# Altium footprint library PCB1.PcbLib: 20 footprints (part 1 of 2)
Each footprint in its own frame and in the unit in brackets; x right, y up, seen from the top. Pads: shape width x height; smd on the part's side, far side on the other; paste and mask are expansions set on the pad; w line width, h text height; cw(c..) or ccw(c..) is an arc to the next point about the centre after c.
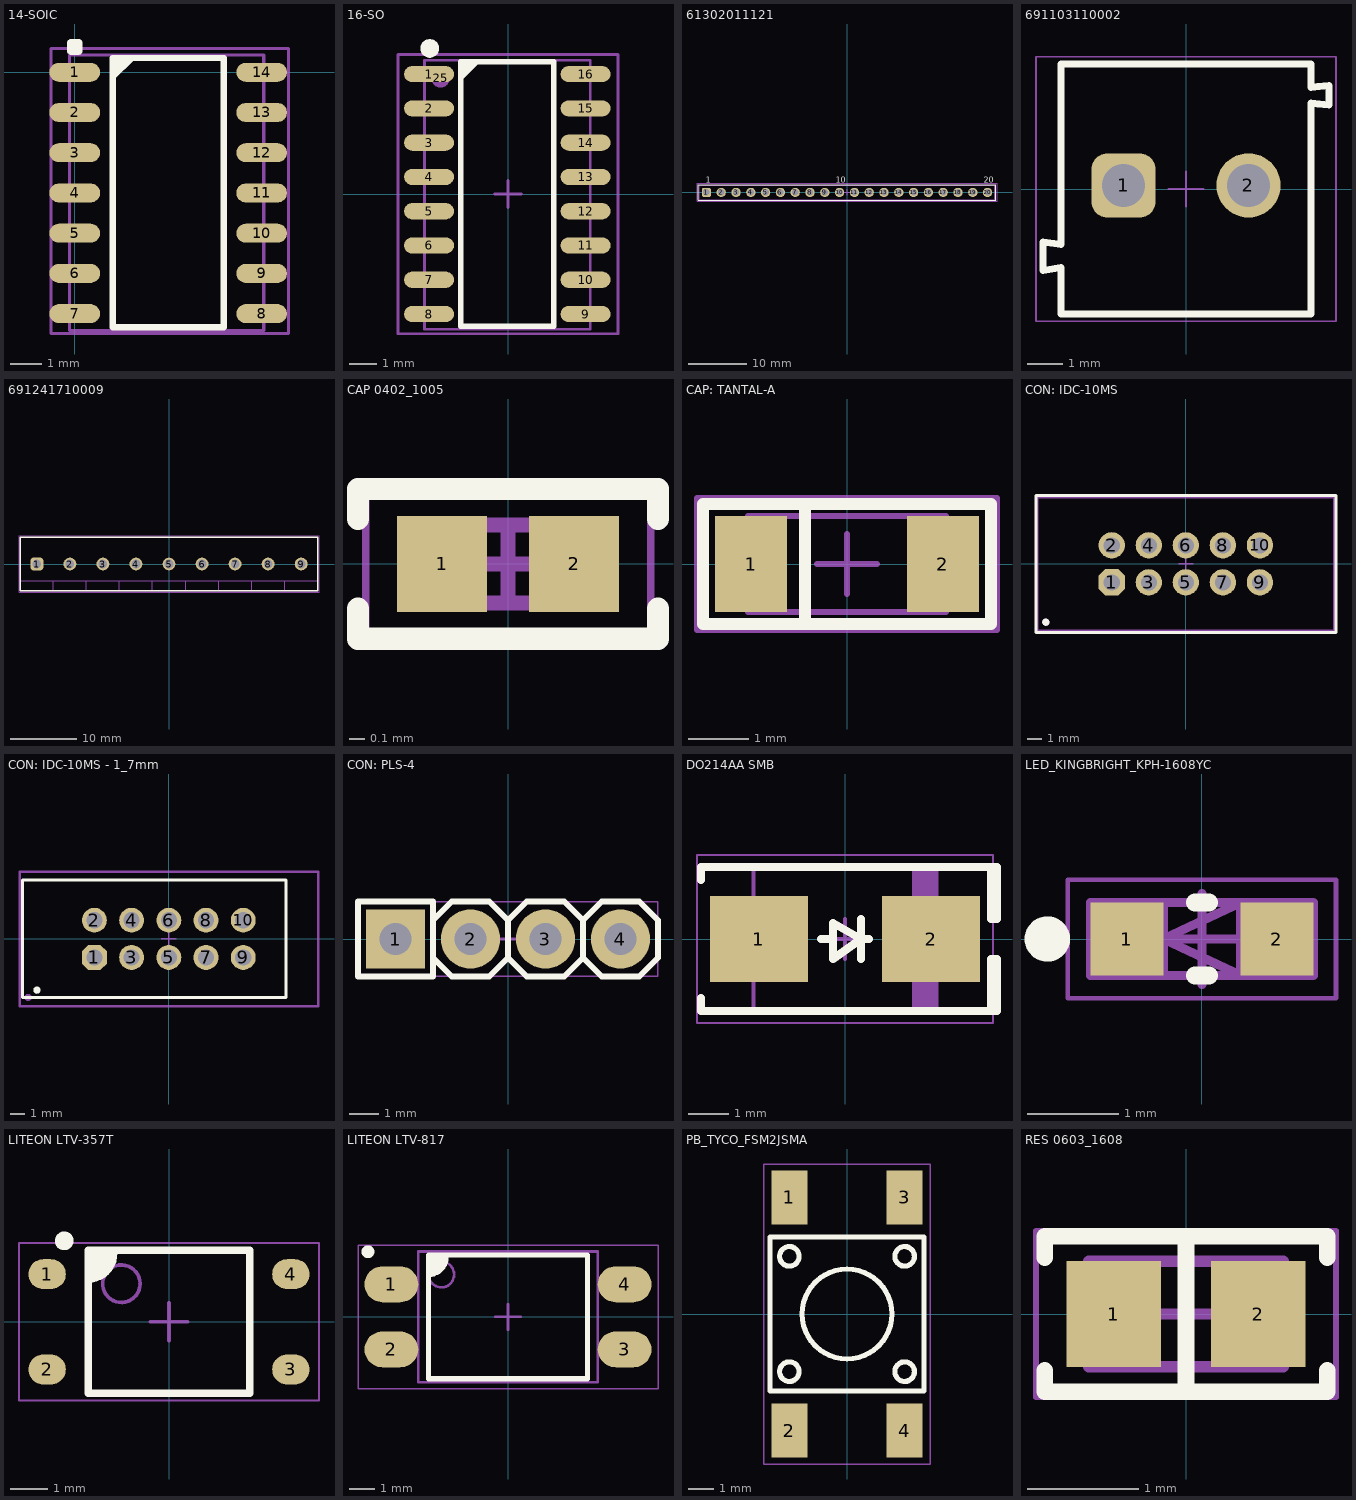
[diagram p0: the footprints below, top view; thin cyan lines are the x and y axes]

## 14-SOIC [mm]
pads (16):
  rrect100% 1.6x0.6 smd: 1(0,0) 2(0,-1.27) 3(0,-2.54) 4(0,-3.81) 5(0,-5.08) 6(0,-6.35) 7(0,-7.62) 8(5.9,-7.62) 9(5.9,-6.35) 10(5.9,-5.08) 11(5.9,-3.81) 12(5.9,-2.54) 13(5.9,-1.27) 14(5.9,0)
  rrect50% 0.5x0.5 on Top Overlay: ""(0,0.8)
  round 0.5 on Mech1: ""(0.5,0)
Top Overlay:
  region: 1.2,0.45 1.2,-0.27 1.92,0.45
  lines w0.2: 1.2,-8.05 4.7,-8.05 4.7,0.45 1.2,0.45 1.2,-8.05
Mechanical 1:
  lines w0.1: -0.168,-8.15 -0.168,0.55 5.969,0.55 5.969,-8.15 -0.168,-8.15
Mechanical 15:
  lines w0.1: -0.75,-8.25 -0.75,0.75 6.75,0.75 6.75,0.5 6.75,-8.25 -0.75,-8.25
3D body "User Library-so14-2.STEP": height 1.78, standoff 0.01, extent -0.118,-8.15 6.019,0.55

## 16-SO [mm]
pads (18):
  oval 1.85x0.6 smd: 1(-2.925,4.448) 2(-2.925,3.178) 3(-2.925,1.908) 4(-2.925,0.638) 5(-2.925,-0.632) 6(-2.925,-1.902) 7(-2.925,-3.172) 8(-2.925,-4.442) 9(2.875,-4.442) 10(2.875,-3.172) 11(2.875,-1.902) 12(2.875,-0.632) 13(2.875,0.638) 14(2.875,1.908) 15(2.875,3.178) 16(2.875,4.448)
  round 0.7 on Mech1: 25(-2.5,4.3)
  round 0.7 on Top Overlay: ""(-2.9,5.4)
Top Overlay:
  region: -1.75,4.9 -1.75,4.18 -1.03,4.9
  lines w0.2: -1.75,-4.9 -1.75,4.9 1.7,4.9 1.7,-4.9 -1.75,-4.9
Mechanical 1:
  lines w0.1: -3.093,-5.01 -3.093,4.96 3.044,4.96 3.044,-5.01 -3.093,-5.01
Mechanical 15:
  lines w0.1: -0.499,0.003 0.501,0.003 ; 0.001,-0.497 0.001,0.503 ; -4.075,-5.175 -4.075,5.175 4.075,5.175 4.075,-5.175 -4.075,-5.175
3D body "User Library-so16-1.STEP": height 1.73, standoff -0.04, extent -3.093,-5.01 3.044,4.96

## 61302011121 [mm]
pads (20):
  rrect50% 1.6x1.6 hole 1.1: 1(-24.13,0)
  round 1.6 hole 1.1: 2(-21.59,0) 3(-19.05,0) 4(-16.51,0) 5(-13.97,0) 6(-11.43,0) 7(-8.89,0) 8(-6.35,0) 9(-3.81,0) 10(-1.27,0) 11(1.27,0) 12(3.81,0) 13(6.35,0) 14(8.89,0) 15(11.43,0) 16(13.97,0) 17(16.51,0) 18(19.05,0) 19(21.59,0) 20(24.13,0)
Top Overlay:
  lines w0.2: -25.55,-1.345 -25.55,1.345 25.55,1.345 25.55,-1.345 -25.55,-1.345
  text "10" at -1.9,1.7 h1.02
  text "1" at -24.25,1.7 h1.02
  text "20" at 23.5,1.7 h1.02
Top 3D Body:
  lines w0.1: -25.4,-1.27 -25.4,1.27 25.4,1.27 25.4,-1.27 -25.4,-1.27
Top Courtyard:
  lines w0.05: -0.5,0 0.5,0 ; 0,-0.5 0,0.5 ; -25.75,-1.545 25.75,-1.545 25.75,1.545 -25.75,1.545 -25.75,-1.545
Top Assembly:
  lines w0.1: -25.4,-1.27 -25.4,1.27 25.4,1.27 25.4,-1.27 -25.4,-1.27
  text ".Designator" at -6.628,2.2 h1.5
3D body "61302011121.stp": height 8.57, standoff -2.97, extent -25.4,-1.27 25.4,1.27

## 691103110002 [mm]
pads (2):
  rrect50% 1.8x1.8 hole 1.2: 1(-1.75,0.1)
  round 1.8 hole 1.2: 2(1.75,0.1)
Top Overlay:
  lines w0.2: -3.5,-1.55 -3.5,3.5 3.5,3.5 3.5,2.85 4,2.899 4,2.35 ; -3.499,-1.55 -4,-1.48 -4,-2.278 -3.5,-2.2 -3.5,-3.5 3.5,-3.5 3.5,2.4 4,2.351
Mechanical 11:
  lines w0.1: -3.5,-1.55 -3.5,3.5 3.5,3.5 3.5,2.85 4,2.899 4,2.35 ; -3.499,-1.55 -4,-1.48 -4,-2.278 -3.5,-2.2 -3.5,-3.5 3.5,-3.5 3.5,2.4 4,2.351
  text ".Designator" at -1.75,-0.75 h1.5
Mechanical 13:
  lines w0.1: -3.5,-1.55 -3.5,3.5 3.5,3.5 3.5,2.85 4,2.899 4,2.35 ; -3.499,-1.55 -4,-1.48 -4,-2.278 -3.5,-2.2 -3.5,-3.5 3.5,-3.5 3.5,2.4 4,2.351
Mechanical 15:
  lines w0.05: -0.5,0 0.5,0 ; 0,-0.5 0,0.5 ; -4.2,-3.7 -4.2,3.7 4.2,3.7 4.2,-3.7 -4.2,-3.7
3D body "691103110002.stp": height 8.45, standoff -3.75, extent -4,-3.5 4,3.5

## 691241710009 [mm]
pads (9):
  rrect50% 1.95x1.95 hole 1.3: 1(-20,0)
  round 1.95 hole 1.3: 2(-15,0) 3(-10,0) 4(-5,0) 5(0,0) 6(5,0) 7(10,0) 8(15,0) 9(20,0)
Top Overlay:
  lines w0.2: -22.5,-4.05 22.5,-4.05 22.5,4.05 -22.5,4.05 -22.5,-4.05
Mechanical 11:
  lines w0.1: -22.5,-2.55 22.5,-2.55 ; -17.5,-4.05 -17.5,-2.55 ; -12.5,-4.05 -12.5,-2.55 ; -7.5,-4.05 -7.5,-2.55 ; -2.5,-4.05 -2.5,-2.55 ; 2.5,-4.05 2.5,-2.55 ; 7.5,-4.05 7.5,-2.55 ; 12.5,-4.05 12.5,-2.55 ; 17.5,-4.05 17.5,-2.55 ; -22.5,-4.05 -22.5,4.05 22.5,4.05 22.5,-4.05 -22.5,-4.05
  text ".Designator" at -1.75,-0.75 h1.5
Mechanical 13:
  lines w0.1: -22.5,-2.55 22.5,-2.55 ; -17.5,-4.05 -17.5,-2.55 ; -12.5,-4.05 -12.5,-2.55 ; -7.5,-4.05 -7.5,-2.55 ; -2.5,-4.05 -2.5,-2.55 ; 2.5,-4.05 2.5,-2.55 ; 7.5,-4.05 7.5,-2.55 ; 12.5,-4.05 12.5,-2.55 ; 17.5,-4.05 17.5,-2.55 ; -22.5,-4.05 22.5,-4.05 22.5,4.05 -22.5,4.05 -22.5,-4.05
Mechanical 15:
  lines w0.05: -0.5,0 0.5,0 ; 0,-0.5 0,0.5 ; -22.7,-4.25 22.7,-4.25 22.7,4.25 -22.7,4.25 -22.7,-4.25
3D body "691241710009.stp": height 10.1, standoff -3.4, extent -22.5,-4.05 22.5,4.05

## CAP 0402_1005 [mm]
pads (2):
  rect 0.6x0.64 smd: 1(-0.44,0) 2(0.44,0)
Top Overlay:
  lines w0.15: -1,-0.3 -1,-0.5 1,-0.5 1,-0.3 ; -1,0.3 -1,0.5 1,0.5 1,0.3
Mechanical 13:
  lines w0.1: -0.515,-0.26 -0.515,0.26 0.515,0.26 0.515,-0.26 -0.515,-0.26
Mechanical 15:
  lines w0.05: -0.95,-0.5 -0.95,0.5 0.95,0.5 0.95,-0.5 -0.95,-0.5
  lines w0.1: -0.26,0 0.26,0 ; 0,-0.26 0,0.26
3D body "0402 cap.STEP": height 0.52, standoff 0, extent -0.5,-0.262 0.5,0.262

## CAP: TANTAL-A [mm]
pads (2):
  rect 1.2x1.6 smd: 1(-1.6,0) 2(1.6,0)
Top Overlay:
  lines w0.2: -0.7,-1 -0.7,1 ; -2.4,-1 -2.4,1 2.4,1 2.4,-1 -2.4,-1
Mechanical 1:
  lines w0.1: -0.7,-0.8 -0.7,0.8 ; -1.651,-0.8 -1.651,0.8 1.651,0.8 1.651,-0.8 -1.651,-0.8
Mechanical 15:
  lines w0.1: -0.5,0 0.5,0 ; 0,-0.5 0,0.5 ; -2.5,-1.1 2.5,-1.1 2.5,1.1 -2.5,1.1 -2.5,-1.1
3D body "User Library-AVX_ACASE.STEP": height 1.71, standoff 0, extent -1.7,-0.84 1.7,0.84

## CON: IDC-10MS [mm]
pads (12):
  oct 1.8x1.8 hole 1.1: 1(-5.08,-1.27)
  round 1.8 hole 1.1: 2(-5.08,1.27) 3(-2.54,-1.27) 4(-2.54,1.27) 5(0,-1.27) 6(0,1.27) 7(2.54,-1.27) 8(2.54,1.27) 9(5.08,-1.27) 10(5.08,1.27)
  round 0.5 on Mech1: ""(-9.6,-4)
  round 0.5 on Top Overlay: ""(-9.6,-4)
Top Overlay:
  lines w0.2: -10.275,-4.7 -10.275,4.675 10.3,4.675 10.3,-4.7 -10.275,-4.7
Mechanical 1:
  lines w0.1: -10.14,-4.572 10.16,-4.572 10.16,4.528 -10.14,4.528 -10.14,-4.572
Mechanical 15:
  lines w0.1: -0.5,0 0.5,0 ; 0,-0.5 0,0.5 ; -10.225,-4.65 -10.225,4.625 10.25,4.625 10.25,-4.65 -10.225,-4.65
3D body "IDC-10MS.STEP": height 9, standoff -3.1, extent -10.14,-4.572 10.16,4.528

## CON: IDC-10MS - 1_7mm [mm]
pads (12):
  oct 1.7x1.7 hole 1.1: 1(-5.08,-1.27)
  round 1.7 hole 1.1: 2(-5.08,1.27) 3(-2.54,-1.27) 4(-2.54,1.27) 5(0,-1.27) 6(0,1.27) 7(2.54,-1.27) 8(2.54,1.27) 9(5.08,-1.27) 10(5.08,1.27)
  round 0.5 on Mech1: ""(-9.6,-4)
  round 0.5 on Top Overlay: ""(-9,-3.5)
Top Overlay:
  lines w0.2: -10,-4 -10,4 8,4 8,2 8,-2 8,-4 -10,-4
Mechanical 1:
  lines w0.1: -10.14,-4.572 -10.14,4.528 10.16,4.528 10.16,-4.572 -10.14,-4.572
Mechanical 15:
  lines w0.1: -0.5,0 0.5,0 ; 0,-0.5 0,0.5 ; -10.225,-4.65 -10.225,4.625 10.25,4.625 10.25,-4.65 -10.225,-4.65
3D body "IDC-10MS.STEP": height 9, standoff -3.1, extent -10.14,-4.572 10.16,4.528

## CON: PLS-4 [mm]
pads (4):
  rect 2x2 hole 1.1: 1(-3.81,0)
  round 2 hole 1.1: 2(-1.27,0) 3(1.27,0) 4(3.81,0)
Top Overlay:
  lines w0.2: -2.54,-0.635 -1.905,-1.27 -0.635,-1.27 0,-0.635 ; -2.54,0.635 -1.905,1.27 -0.635,1.27 0,0.635 ; 0,-0.635 0.635,-1.27 1.905,-1.27 2.54,-0.635 ; 0,-0.635 0,0.635 ; 0,0.635 0.635,1.27 1.905,1.27 2.54,0.635 ; 2.54,-0.635 3.175,-1.27 4.445,-1.27 5.08,-0.635 5.08,0.635 4.445,1.27 3.175,1.27 2.54,0.635 ; 2.54,-0.635 2.54,0.635 ; -5.08,-1.27 -2.54,-1.27 -2.54,1.27 -5.08,1.27 -5.08,-1.27
Mechanical 1:
  lines w0.1: -2.54,-0.635 -1.905,-1.27 -0.635,-1.27 0,-0.635 ; -2.54,0.635 -1.905,1.27 -0.635,1.27 0,0.635 ; 0,-0.635 0,0.635 ; 0,-0.635 0.635,-1.27 1.905,-1.27 2.54,-0.635 ; 0,0.635 0.635,1.27 1.905,1.27 2.54,0.635 ; 2.54,-0.635 2.54,0.635 ; 2.54,-0.635 3.175,-1.27 4.445,-1.27 5.08,-0.635 5.08,0.635 4.445,1.27 3.175,1.27 2.54,0.635 ; -5.08,-1.27 -5.08,1.27 -2.54,1.27 -2.54,-1.27 -5.08,-1.27
Mechanical 15:
  lines w0.05: -5.08,-1.27 -5.08,1.27 5.08,1.27 5.08,-1.27 -5.08,-1.27
  lines w0.1: -0.5,0 0.5,0 ; 0,-0.5 0,0.5
3D body "PLS-4.STEP": height 8.54, standoff -3, extent -5.08,-1.27 5.08,1.27

## DO214AA SMB [mm]
pads (2):
  rect 2.45x2.15 smd: 1(-2.15,0) 2(2.15,0)
Top Overlay:
  lines w0.2: -3.6,-1.475 -3.6,-1.8 3.8,-1.8 3.8,-0.5 3.65,-0.5 3.65,-1.8 ; -3.6,1.475 -3.6,1.8 3.8,1.8 3.8,0.5 3.65,0.5 3.65,1.8 ; -0.6,0 -0.3,0 ; 0.4,-0.5 0.4,0.5 ; 0.6,0 0.4,0 ; 0.4,0 -0.3,-0.5 -0.3,0.4 0.4,0
Mechanical 13:
  rectangle: 1.671,-1.8 2.285,1.8
  lines w0.1: -2.285,-1.8 -2.285,1.8 2.285,1.8 2.285,-1.8 -2.285,-1.8
Mechanical 15:
  lines w0.05: -3.7,-2.1 -3.7,2.1 3.7,2.1 3.7,-2.1 -3.7,-2.1
  lines w0.1: -0.5,0 0.5,0 ; 0,-0.5 0,0.5
3D body "SMB.STEP": height 2.4, standoff 0, extent -2.6,-1.799 2.6,1.8

## LED_KINGBRIGHT_KPH-1608YC [mm]
pads (2):
  rect 0.8x0.8 smd: 1(-0.825,0) 2(0.825,0)
Top Overlay:
  circle w0.25: c-1.7,0 r0.125
  lines w0.2: -0.075,-0.4 0.075,-0.4 ; -0.075,0.4 0.075,0.4
Mechanical 8:
  lines w0.1: -0.5,0 0,0 ; -0.425,0 0.425,0 ; 0,-0.5 0,0 ; 0,0.5 0,0 ; 0.5,0 0,0 ; -0.425,-0.4 -1.225,-0.4 -1.225,0.4 -0.425,0.4 ; -0.425,-0.4 -0.425,0.4 ; -0.425,-0.4 -0.825,0 -0.425,0.4 ; 1.225,-0.4 0.425,-0.4 0.425,0.4 1.225,0.4 ; 1.225,-0.4 1.225,0.4 ; 1.225,-0.4 0.825,0 1.225,0.4
Mechanical 14:
  lines w0.1: -0.8,-0.4 -0.8,0.4 0.8,0.4 0.8,-0.4 -0.8,-0.4 ; -0.425,0 0.425,0.4 0.425,-0.4 -0.425,0
Mechanical 15:
  lines w0.05: -1.475,-0.65 -1.475,0.65 1.475,0.65 1.475,-0.65 -1.475,-0.65
3D body "LED_KINGBRIGHT_KPH-1608YC_Part2.stp": height 0.65, standoff 0.12, extent -0.6,-0.4 0.6,0.4
3D body "LED_KINGBRIGHT_KPH-1608YC_Part1.stp": height 0.2, standoff 0, extent -0.8,-0.4 0.8,0.4

## LITEON LTV-357T [mm]
pads (4):
  oval 1x0.8 smd: 1(-3.25,1.27) 2(-3.25,-1.27) 3(3.25,-1.27) 4(3.25,1.27)
Top Overlay:
  circle w0.25: c-2.794,2.159 r0.125
  region: -2.159,1.905 -1.472,1.905 -1.472,1.524 -1.853,1.143 -2.159,1.143
  lines w0.2: -2.159,1.143 ccw(c-2.159,1.83) -1.472,1.83 ; -2.159,-1.905 -2.159,1.905 2.159,1.905 2.159,-1.905 -2.159,-1.905
Mechanical 13:
  circle w0.1: c-1.27,1.016 r0.5
  lines w0.1: -2.159,-1.905 -2.159,1.905 2.159,1.905 2.159,-1.905 -2.159,-1.905
Mechanical 15:
  lines w0.05: -4,-2.1 -4,2.1 4,2.1 4,-2.1 -4,-2.1
  lines w0.1: -0.5,0 0.5,0 ; 0,-0.5 0,0.5
3D body "LTV-357T.STEP": height 2.1, standoff 0, extent -3.514,-1.925 3.514,1.925

## LITEON LTV-817 [mm]
pads (4):
  oval 2.1x1.4 smd: 1(-4.55,1.27) 2(-4.55,-1.27) 3(4.55,-1.27) 4(4.55,1.27)
Top Overlay:
  circle w0.25: c-5.461,2.54 r0.125
  region: -3.1,2.413 -2.413,2.413 -2.413,2.032 -2.794,1.651 -3.1,1.651
  lines w0.2: -3.1,1.651 ccw(c-3.1,2.338) -2.413,2.338 ; -3.1,-2.413 -3.1,2.413 3.1,2.413 3.1,-2.413 -3.1,-2.413
Mechanical 13:
  circle w0.1: c-2.6,1.65 r0.5
  lines w0.1: -3.5,-2.55 -3.5,2.55 3.5,2.55 3.5,-2.55 -3.5,-2.55
Mechanical 15:
  lines w0.05: -5.85,-2.8 -5.85,2.8 5.85,2.8 5.85,-2.8 -5.85,-2.8
  lines w0.1: -0.5,0 0.5,0 ; 0,-0.5 0,0.5
3D body "LTV-817S.STEP": height 3.85, standoff 0, extent -5.098,-2.3 5.098,2.3

## PB_TYCO_FSM2JSMA [mm]
pads (4):
  rect 1.4x2.1 smd: 1(-2.25,4.55) 2(-2.25,-4.55) 3(2.25,4.55) 4(2.25,-4.55)
Top Overlay:
  circle w0.2: c0,0 r1.753
  circle w0.2: c2.248,2.248 r0.381
  circle w0.2: c2.248,-2.248 r0.381
  circle w0.2: c-2.248,2.248 r0.381
  circle w0.2: c-2.248,-2.248 r0.381
  lines w0.2: -3,-3 -3,3 3,3 3,-3 -3,-3
Mechanical 14:
  circle w0.1: c0,0 r1.753
  circle w0.1: c2.248,2.248 r0.381
  circle w0.1: c2.248,-2.248 r0.381
  circle w0.1: c-2.248,2.248 r0.381
  circle w0.1: c-2.248,-2.248 r0.381
  lines w0.1: -3,-3 -3,3 3,3 3,-3 -3,-3
Mechanical 15:
  lines w0.05: -3.25,-5.85 -3.25,5.85 3.25,5.85 3.25,-5.85 -3.25,-5.85
3D body "PB_TYCO_FSM2JSMA.stp": height 4.39, standoff 0, extent -3,-5 3,5

## RES 0603_1608 [mm]
pads (2):
  rect 0.85x0.95 smd: 1(-0.65,0) 2(0.65,0)
Top Overlay:
  lines w0.15: -1.27,-0.508 -1.27,-0.7 1.27,-0.7 1.27,-0.508 ; -1.27,0.508 -1.27,0.7 1.27,0.7 1.27,0.508 ; 0,-0.7 0,0.7
Mechanical 13:
  lines w0.1: -0.875,-0.475 -0.875,0.475 0.875,0.475 0.875,-0.475 -0.875,-0.475
Mechanical 15:
  lines w0.05: -1.35,-0.75 -1.35,0.75 1.35,0.75 1.35,-0.75 -1.35,-0.75
  lines w0.1: -0.475,0 0.475,0 ; 0,-0.475 0,0.475
3D body "0603 resistor.STEP": height 0.45, standoff 0, extent -0.8,-0.4 0.8,0.4